# EAGLE library part MI_I2C_EXT_ADDON (library MI)
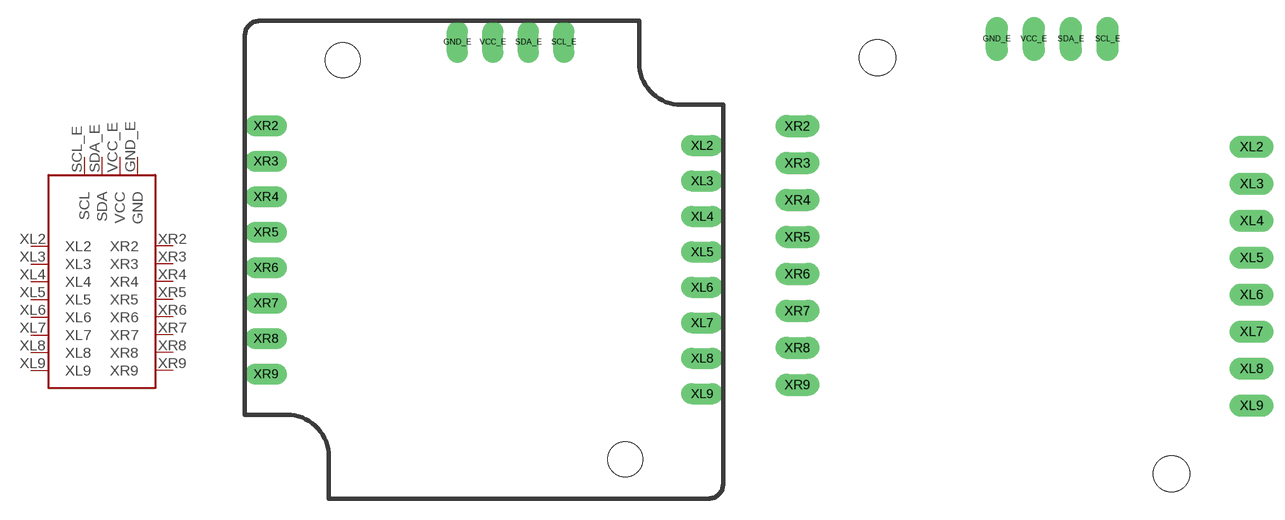
[diagram p2: symbol with the pads of MI_34X34MM_I2C_EXT_ADDON; footprints MI_34X34MM_I2C_EXT_ADDON, MI_34X34MM_I2C_EXT_ADDON_PANEL]

Designator prefix -

## MI_I2C_EXT_ADDON  [MI_34X34MM_I2C_EXT_ADDON]
GND_E  GND
SCL_E  SCL
SDA_E  SDA
VCC_E  VCC
XL2  XL2
XL3  XL3
XL4  XL4
XL5  XL5
XL6  XL6
XL7  XL7
XL8  XL8
XL9  XL9
XR2  XR2
XR3  XR3
XR4  XR4
XR5  XR5
XR6  XR6
XR7  XR7
XR8  XR8
XR9  XR9

## MI_I2C_EXT_ADDONPANEL  [MI_34X34MM_I2C_EXT_ADDON_PANEL]
Pads as for MI_34X34MM_I2C_EXT_ADDON

## Footprint MI_34X34MM_I2C_EXT_ADDON (pad centres in mm)
drill 1 long: GND_E 15.2,32.7; SCL_E 22.81,32.7; SDA_E 20.28,32.7; VCC_E 17.74,32.7; XL2 32.7,25.28; XL3 32.7,22.74; XL4 32.7,20.2; XL5 32.7,17.66; XL6 32.7,15.12; XL7 32.7,12.58; XL8 32.7,10.04; XL9 32.7,7.5; XR2 1.5,26.7; XR3 1.5,24.16; XR4 1.5,21.62; XR5 1.5,19.08; XR6 1.5,16.54; XR7 1.5,14; XR8 1.5,11.46; XR9 1.5,8.92
hole 2.5 at 27.2,2.8
hole 2.5 at 7,31.4

## Footprint MI_34X34MM_I2C_EXT_ADDON_PANEL (pad centres in mm)
drill 1 long: GND_E 15.2,32.7; SCL_E 22.81,32.7; SDA_E 20.28,32.7; VCC_E 17.74,32.7; XL2 32.7,25.28; XL3 32.7,22.74; XL4 32.7,20.2; XL5 32.7,17.66; XL6 32.7,15.12; XL7 32.7,12.58; XL8 32.7,10.04; XL9 32.7,7.5; XR2 1.5,26.7; XR3 1.5,24.16; XR4 1.5,21.62; XR5 1.5,19.08; XR6 1.5,16.54; XR7 1.5,14; XR8 1.5,11.46; XR9 1.5,8.92
hole 2.5 at 27.2,2.8
hole 2.5 at 7,31.4